# EAGLE library part MCP4821 (library _RoweTel)
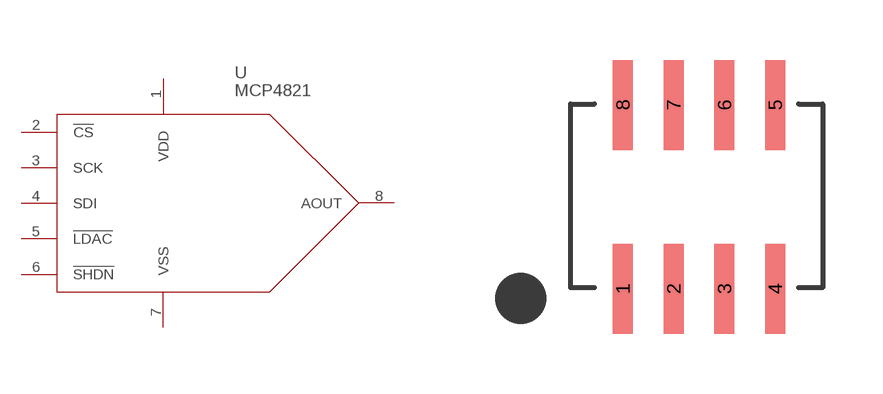
[diagram p44: symbol with the pads of SOIC8; footprint SOIC8]

Designator prefix U

## MCP4821  [SOIC8]
1  VDD
2  !CS
3  SCK
4  SDI
5  !LDAC
6  !SHDN
7  VSS
8  AOUT

## Footprint SOIC8 (pad centres in mm)
smd 0.5 x 2.25: 1 -1.9,-2.3; 2 -0.63,-2.3; 3 0.64,-2.3; 4 1.91,-2.3; 5 1.91,2.3; 6 0.64,2.3; 7 -0.63,2.3; 8 -1.9,2.3